# Altium schematic symbol library HFPB_01-SchLib.SchLib: 68 symbols (part 1 of 2)
Pins are listed as number, name and electrical type; pins without a type are passive.

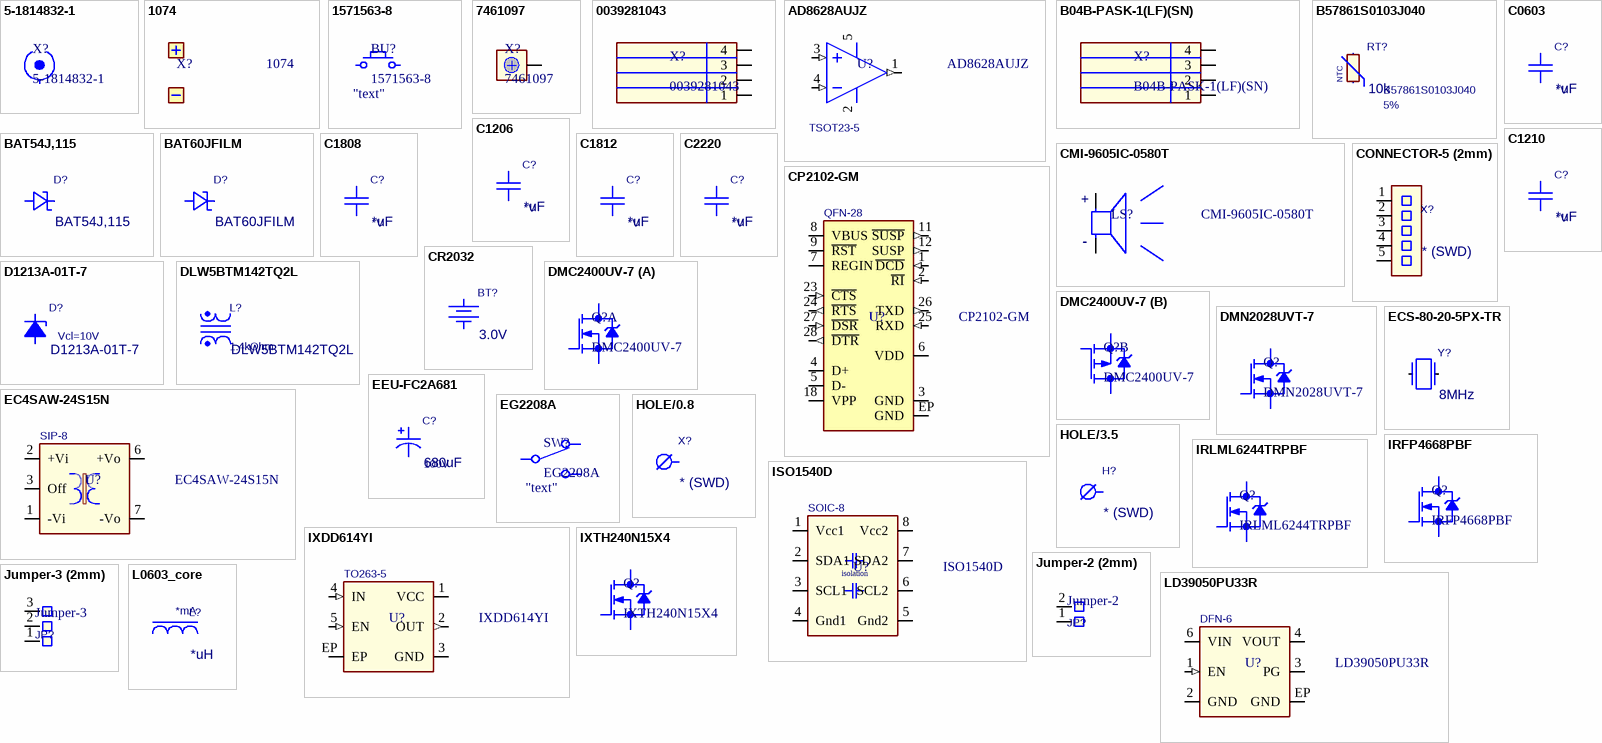
[diagram p0: symbols 5-1814832-1 to LD39050PU33R]

## 5-1814832-1
designator X?
SMA Jack, Socket 50Ohm; Manufacturer: TE Connectivity; CompType: Connector; Alternative: *; Comment for circuit: *; Datasheet link: https://media.digikey.com/pdf/Data%20Sheets/Tyco%20Electonics%20AMP%20PDFs/1814832.pdf; Digikey link: https://www.digikey.com/en/products/detail/te-connectivity-amp-connectors/5-1814832-1/1755982?s=N4IgTCBcDaIKwFoCMAOJAWFBmMyQF0BfIA; Digikey number: A97594-ND; Mouser link: https://ru.mouser.com/ProductDetail/TE-Connectivity/5-1814832-1?qs=%2Fha2pyFadujv3xjXUHYfT9HFCQFIaOvj947YzfzZQLTp9WrCGaVNGg%3D%3D; Mouser number: 571-5-1814832-1; Package/Case: Through Hole; Part Description: SMA Jack, Socket 50Ohm; Part number: 5-1814832-1; Price per 1p (1), $: 12.0; Price per 1p (1000), $: 1.7; Mating with: *
footprint TE_5-1814832-1
pins: 1, 2

## 1074
designator X?
Battery holder for CR2032; Manufacturer: Keystone; CompType: Connector; Package/Case: Trough Hole-3; Alternative: *; Comment for circuit: *; Datasheet link: http://www.keystoneelectronics.net/ENG._DEPT/WEB_ORACLE/PDF/PDF%20CAT%20NO%20DRAWINGS/1000-1999/1074.PDF; Digikey link: https://www.digikey.com/en/products/detail/keystone-electronics/1074/9921784; Digikey number: 36-1074-ND; Mouser link: https://ru.mouser.com/ProductDetail/Keystone-Electronics/1074?qs=u16ybLDytRZ%2FZj7HSRmD5g%3D%3D; Mouser number: 534-1074; Part Description: Battery holder for CR2032; Part number: 1074; Price per 1p (1), $: 0.63; Price per 1p (1000), $: 0.37
footprint Keystone-1074 (Battery holder)
pins: 1 MINUS, 2 PLUS

## 1571563-8
designator BU?  value "text"
Switch tactile OFF-(ON) 0.05A 24V; Manufacturer: TE Connectivity; Part Description: Switch tactile 6.0x6.0x5.0mm; CompType: Switch; Alternative: *; Comment for circuit: *; Datasheet link: https://www.te.com/commerce/DocumentDelivery/DDEController?Action=srchrtrv&DocNm=2-1437565-7&DocType=Customer+Drawing&DocLang=English; Digikey link: https://www.digikey.com/product-detail/en/te-connectivity-alcoswitch-switches/1571563-8/450-2056-1-ND/4569746; Digikey number: 450-2056-1-ND; Mouser link: https://www.mouser.fi/ProductDetail/TE-Connectivity-PB/1571563-8?qs=%2Fha2pyFaduj0OuietpPA40kWGM%2FYIDp1pjMEPmW2uQg=; Mouser number: 506-1571563-8; Package/Case: SMD 6.0x6.00; Part number: 1571563-8; Price per 1p (1), $: 0.3; Price per 1p (1000), $: 0.2
footprint TE_1571563-8
pins: 1, 2, 3, 4

## 7461097
designator X?
Screw Terminal M6 16 pin; Manufacturer: Wurth Elektronik; CompType: Connector; Alternative: *; Comment for circuit: *; Datasheet link: https://www.we-online.de/katalog/datasheet/7461097.pdf; Digikey link: https://www.digikey.com/en/products/detail/w%C3%BCrth-elektronik/7461097/2682508; Digikey number: 732-3217-ND; Mouser link: https://eu.mouser.com/ProductDetail/Wurth-Elektronik/7461097/?qs=%2Fha2pyFaduivfHmPS%2FalO0LxillnNa7WBZ9739yqip0%3D; Mouser number: 710-7461097; Package/Case: Through Hole; Part Description: Screw Terminal M6 16 pin; Part number: 7461097; Price per 1p (1), $: 5.15; Price per 1p (1000), $: 3.00; Mating with: *
footprint Wurth_7461097 (M6, blind 6.5mm)
pins: 1

## 0039281043
designator X?
Connector Header 4 pin; Manufacturer: Molex; Mating with: 0039012040 + 4 x (0039000039); Text: "text"; CompType: Connector; Alternative: *; Comment for circuit: *; Datasheet link: https://www.molex.com/pdm_docs/sd/039281043_sd.pdf; Digikey link: https://www.digikey.com/en/products/detail/molex/0039281043/61400; Digikey number: WM3801-ND; Mouser link: https://ru.mouser.com/ProductDetail/Molex/39-28-1043?qs=LQQHZ4xw2XCMHoV0KRLGhg%3D%3D; Mouser number: 538-39-28-1043; Package/Case: Through Hole; Part Description: Connector Header 4 pin; Part number: 0039281043; Price per 1p (1), $: 0.75; Price per 1p (1000), $: 0.34
footprint Molex_0039281043 (Connector Header Through Hole 4 position 4.2mm)
pins: 1, 2, 3, 4

## AD8628AUJZ
designator U?  Package/Case: TSOT23-5
OpAmp Rail-to-Rail 1 Channel; Manufacturer: Analog Devices; CompType: Integrated circuit; Alternative: *; Comment for circuit: *; Datasheet link: https://www.analog.com/media/en/technical-documentation/data-sheets/AD8628_8629_8630.pdf; Digikey link: https://www.digikey.com/en/products/detail/analog-devices-inc/AD8628AUJZ-REEL7/996267; Digikey number: AD8628AUJZ-REEL7CT-ND; Mouser link: https://ru.mouser.com/ProductDetail/Analog-Devices/AD8628AUJZ-REEL7?qs=%2FtpEQrCGXCwiRJmva1wT4g%3D%3D; Mouser number: 584-AD8628AUJZ-R7; Part Description: OpAmp Rail-to-Rail 1 Channel; Part number: AD8628AUJZ; Price per 1p (1), $: 2.63; Price per 1p (1000), $: 1.28
footprint SOT23-5P95_280X145L45X40N (Small Outline Transistor (SOT23), 0.95 mm pitch; 5 pin, 2.90 mm L X 1.60 mm W X 1.45 mm H body)
pins: 1 OUT (out), 2 V- (power), 3 IN+ (in), 4 IN- (in), 5 V+ (power)

## B04B-PASK-1(LF)(SN)
designator X?
Connector Header 4 pins, 2.0mm; Manufacturer: JST; Mating with: PAP-04V-S; CompType: Connector; Alternative: *; Comment for circuit: *; Datasheet link: http://www.jst-mfg.com/product/pdf/eng/ePA-F.pdf; Digikey link: https://www.digikey.com/en/products/detail/jst-sales-america-inc/B04B-PASK-1-LF-SN/926740; Digikey number: 455-1834-ND; Mouser link: -; Mouser number: -; Package/Case: Through Hole; Part Description: Connector Header 4 pins, 2.0mm; Part number: B04B-PASK-1(LF)(SN); Price per 1p (1), $: 0.34; Price per 1p (1000), $: 0.16
footprint JST_B04B-PASK-1
pins: 1, 2, 3, 4

## B57861S0103J040
designator RT?, comment 10k  Part number: B57861S0103J040  Value1: 5%
Thermistor NTC 10k 5%; Manufacturer: TDK-EPCOS; Part Description: NTC resistor 10kOhm 5% 3988K; Value2: 3988K; Alternative: NTCG104ED104DT1X; Value3: 60mW; CompType: Thermistor; Value: 10k; Package/Case: Through hole; Datasheet link: https://www.tdk-electronics.tdk.com/inf/50/db/ntc/NTC_Mini_sensors_S861.pdf; Price per 1p (1), $: 1.; Price per 1p (1000), $: 0.8; Comment for circuit: *; Mouser number: 871-B57861S103J40; Digikey number: 495-75200-ND; Digikey link: https://www.digikey.com/en/products/detail/epcos-tdk-electronics/B57861S0103J040/3500452?s=N4IgTCBcDaIEIFYDsAOAbARgMoAYM4GYApHAFhxAF0BfIA; Mouser link: https://eu.mouser.com/ProductDetail/EPCOS-TDK/B57861S0103J040?qs=%2Fha2pyFadujntv0e0iDVKOWqU6ne%252BuLwIPAsv4SnY6MEOfaNDodXpA%3D%3D
footprint NTC - Through hole
pins: 1, 2
text: NTC

## BAT54J,115
designator D?
Diode Schottky 30V 0.2A; Manufacturer: Nexperia; Value2: 0.8V; Part number: BAT54J,115; CompType: Diode; Package/Case: SOD-323F; Datasheet link: https://rocelec.widen.net/view/pdf/es9ugfukaw/PHGLS14913-1.pdf?t.download=true&u=5oefqw; Price per 1p (1), $: 0.24; Price per 1p (1000), $: 0.04; Comment for circuit: *; Mouser number: 771-BAT54J115; Digikey number: 1727-4818-1-ND; Alternative: *; Digikey link: https://www.digikey.com/en/products/detail/nexperia-usa-inc/BAT54J-115/1692654; Mouser link: https://eu.mouser.com/ProductDetail/Nexperia/BAT54J115?qs=%2Fha2pyFadugI9ADa6WxEnxQzp3xOrOvOo4yhxZudU23LhjKFM4l8YQ%3D%3D; Value3: -; Part Description: Diode Schottky 30V 0.2A; Value1: 0.2A; Value: 30V
footprint SODFL250X125X80L40X32N (Diode, Small Outline Diode Flat Lead (SODFL); 1.70 mm L X 1.25 mm W X 0.80 mm H body)
pins: A, C

## BAT60JFILM
designator D?
Diode Schottky 10V 3A; Manufacturer: STM; Value2: 0.58V; Part number: BAT60JFILM; CompType: Diode; Package/Case: SOD-323; Datasheet link: https://www.st.com/content/ccc/resource/technical/document/datasheet/3d/d2/27/1d/20/e3/4d/48/CD00001944.pdf/files/CD00001944.pdf/jcr:content/translations/en.CD00001944.pdf; Price per 1p (1), $: 0.32; Price per 1p (1000), $: 0.06; Comment for circuit: *; Mouser number: 511-BAT60JFILM; Digikey number: 497-3707-1-ND; Alternative: *; Digikey link: https://www.digikey.com/en/products/detail/stmicroelectronics/BAT60JFILM/686386?s=N4IgTCBcDaIEIEEAqA2ADAKQGIEkAyAsiALoC%2BQA; Mouser link: https://eu.mouser.com/ProductDetail/STMicroelectronics/BAT60JFILM?qs=%2Fha2pyFadugkQQnfwhC%2FYlghszO9A%2FCVKvGNi1XWJVA%3D; Value3: -; Part Description: Diode Schottky 10V 3A; Value1: 3A; Value: 10V
footprint SOD250X125X110L30X32N (Diode, Small Outline Diode (SOD); 1.70 mm L X 1.25 mm W X 1.10 mm H body)
pins: A, C

## C0603
designator C?, comment *uF  Value3: *V
Capacitor 0603; Manufacturer: * (Murata); Part Description: *(Ceramic) *uF *% *(X7R) *(V); Value1: *%; Value2: *(X7R); Part number: *; CompType: Capacitor; Value: *uF; Package/Case: SMD0603; Datasheet link: *; Price per 1p (1), $: *; Price per 1p (1000), $: *; Comment for circuit: *; Mouser number: *; Digikey number: *; Alternative: *; Digikey link: *; Mouser link: *
footprint CAPC160X80X80L35N - Full legend (Capacitor, Chip; 1.60 mm L X 0.80 mm W X 0.80 mm H body)
pins: 1, 2

## C1206
designator C?, comment *uF  Value3: *V
Capacitor 1206; Manufacturer: * (Murata); Part Description: *(Ceramic) *uF *% *(X7R) *(V); Value1: *%; Value2: *(X7R); Part number: *; CompType: Capacitor; Value: *uF; Package/Case: SMD1206; Datasheet link: *; Price per 1p (1), $: *; Price per 1p (1000), $: *; Comment for circuit: *; Mouser number: *; Digikey number: *; Alternative: *; Digikey link: *; Mouser link: *
footprint CAPC320X160X180L50N - full legend (Capacitor, Chip; 3.20 mm L X 1.60 mm W X 1.80 mm H body)
pins: 1, 2

## C1210
designator C?, comment *uF  Value3: *V
Capacitor 1210; Manufacturer: * (Murata); Part Description: *(Ceramic) *uF *% *(X7R) *(V); Value1: *%; Value2: *(X7R); Part number: *; CompType: Capacitor; Value: *uF; Package/Case: SMD1210; Datasheet link: *; Price per 1p (1), $: *; Price per 1p (1000), $: *; Comment for circuit: *; Mouser number: *; Digikey number: *; Alternative: *; Digikey link: *; Mouser link: *
footprint CAPC320X250X280L60N - full legend (Capacitor, Chip; 3.20 mm L X 2.50 mm W X 2.80 mm H body)
pins: 1, 2

## C1808
designator C?, comment *uF  Value3: *V
Capacitor 1808; Manufacturer: * (Murata); Part Description: *(Ceramic) *uF *% *(X7R) *(V); Value1: *%; Value2: *(X7R); Part number: *; CompType: Capacitor; Value: *uF; Package/Case: SMD1808; Datasheet link: *; Price per 1p (1), $: *; Price per 1p (1000), $: *; Comment for circuit: *; Mouser number: *; Digikey number: *; Alternative: *; Digikey link: *; Mouser link: *
footprint CAPC470X200X175L60N (Capacitor, Chip; 4.70 mm L X 2.00 mm W X 1.75 mm H body)
pins: 1, 2

## C1812
designator C?, comment *uF  Value3: *V
Capacitor 1812; Manufacturer: * (Murata); Part Description: *(Ceramic) *uF *% *(X7R) *(V); Value1: *%; Value2: *(X7R); Part number: *; CompType: Capacitor; Value: *uF; Package/Case: SMD1812; Datasheet link: *; Price per 1p (1), $: *; Price per 1p (1000), $: *; Comment for circuit: *; Mouser number: *; Digikey number: *; Alternative: *; Digikey link: *; Mouser link: *
footprint CAPC450X320X140L60N (Capacitor, Chip; 4.50 mm L X 3.20 mm W X 1.40 mm H body)
pins: 1, 2

## C2220
designator C?, comment *uF  Value3: *V
Capacitor 2220; Manufacturer: * (Murata); Part Description: *(Ceramic) *uF *% *(X7R) *(V); Value1: *%; Value2: *(X7R); Part number: *; CompType: Capacitor; Value: *uF; Package/Case: SMD2220; Datasheet link: *; Price per 1p (1), $: *; Price per 1p (1000), $: *; Comment for circuit: *; Mouser number: *; Digikey number: *; Alternative: *; Digikey link: *; Mouser link: *
footprint CAPC570X500X160L60N (Capacitor, Chip; 5.70 mm L X 5.00 mm W X 1.60 mm H body)
pins: 1, 2

## CMI-9605IC-0580T
designator LS?
Buzzer Magnetic Audio Indicator 5V 80dB 2.7kHz; Manufacturer: CUI; Part Description: Buzzer Magnetic  5V 80dB 2.7kHz; CompType: Buzzer; Package/Case: Through hole 9.6x5.0; Alternative: *; Comment for circuit: *; Datasheet link: https://www.mouser.fi/datasheet/2/670/cmi-9605ic-0580t-1777058.pdf; Digikey link: https://www.digikey.com/product-detail/en/cui-devices/CMI-9605IC-0580T/2223-CMI-9605IC-0580T-ND/11674175; Digikey number: 2223-CMI-9605IC-0580T-ND; Mouser link: https://www.mouser.fi/ProductDetail/CUI-Devices/CMI-9605IC-0580T?qs=%2Fha2pyFaduiWDziRe0pUkXmI24fbhN7%252BQ5ghD9GyA1o5501nVMK8eg%3D%3D; Mouser number: 490-CMI-9605IC-0580T; Part number: CMI-9605IC-0580T; Price per 1p (1), $: 1.41; Price per 1p (1000), $: 0.77
footprint CUI_CMI-9605IC-0580T
pins: N, P
text: +; -

## CONNECTOR-5 (2mm)
designator X?, comment * (SWD)
Connector 5 holes 2mm; Value1: 0.8mm; Value2: 1.4mm; CompType: Connector; Value: * (SWD); Package/Case: -; Comment for circuit: *; Part Description: *
footprint PLS-5 (Header, Vertical, 2.54 mm pitch; 0.64 mm lead width, 5 pins, 1 row, 5 pins per row, 12.70 mm L X 2.54 mm W X 8.40 mm H body)
pins: 1, 2, 3, 4, 5

## CP2102-GM
designator U?  Package/Case: QFN-28
Interface USB to UART; Manufacturer: Silicon Labs; CompType: Integrated circuit; Alternative: *; Comment for circuit: *; Datasheet link: https://www.silabs.com/documents/public/data-sheets/CP2102-9.pdf; Digikey link: https://www.digikey.com/en/products/detail/silicon-labs/CP2102-GM/696598; Digikey number: 336-1160-5-ND; Mouser link: https://eu.mouser.com/ProductDetail/Silicon-Labs/CP2102-GM?qs=yHCtFi5ROqJvCcyR88R4Pg%3D%3D; Mouser number: 634-CP2102-GM; Part Description: Interface USB to UART; Part number: CP2102-GM; Price per 1p (1), $: 3.5; Price per 1p (1000), $: 1.5
footprint QFN29P50_500X500X100L55X23T315N (Quad Flat No-Lead (QFN with Tab), 0.50 mm pitch; square, 7 pin X 7 pin, 5.00 mm L X 5.00 mm W X 1.00 mm H body)
pins: 1 ~{DCD} (in), 2 ~{RI} (in), 3 GND (power), 4 D+ (io), 5 D- (io), 6 VDD (power), 7 REGIN (power), 8 VBUS (power), 9 ~{RST} (io), 11 ~{SUSP} (out), 12 SUSP (out), 18 VPP (io), 23 ~{CTS} (in), 24 ~{RTS} (out), 25 RXD (in), 26 TXD (out), 27 ~{DSR} (in), 28 ~{DTR} (out), EP GND (power)

## CR2032
designator BT?, comment 3.0V
Battery CR2032; Manufacturer: * (Panasonic); Part Description: CR2032 Lithium; CompType: Battery 18650 Li-Pol; Value1: *mA*h; Part number: *; Value: 3.0V; Package/Case: *; Datasheet link: *; Price per 1p (1), $: *; Price per 1p (1000), $: *; Comment for circuit: *; Mouser number: *; Digikey number: *; Alternative: *; Digikey link: *; Mouser link: *
pins: 1, 2

## D1213A-01T-7
designator D?  Value2: Vcl=10V
TVS Diode Vstand=3.3V Vclamp=10V; Manufacturer: Diodes Inc.; Part Description: TVS Diode Vstand=5.5V Vclamp=10V; Value: Vst=3.3V; Value3: 5A; Value1: Vbr=6V; CompType: TVS Diode; Package/Case: SOD-523; Datasheet link: https://www.diodes.com/assets/Datasheets/D1213A-01T.pdf; Price per 1p (1), $: 0.36; Price per 1p (1000), $: 0.055; Comment for circuit: *; Mouser number: 621-D1213A-01T-7; Digikey number: D1213A-01T-7DICT-ND; Alternative: *; Digikey link: https://www.digikey.com/en/products/detail/diodes-incorporated/d1213a-01t-7/3340396; Mouser link: https://www.mouser.fi/ProductDetail/Diodes-Incorporated/D1213A-01T-7?qs=%2Fha2pyFadugTbXyDDJCBKr26BLlAlDs3op5XjdvY%2F2Ix7eZK8W%2F%2Fgg%3D%3D; Part number: D1213A-01T-7
footprint SODFL160X80X65L30X30N (Diode, Small Outline Diode Flat Lead (SODFL); 1.20 mm L X 0.80 mm W X 0.65 mm H body)
pins: A Anode, C Cathode

## DLW5BTM142TQ2L
designator L?  value 1.4kOhm
Common Mode Choke 2 lines 1.4kOhm 2A 56mOhm; Manufacturer: Murata; CompType: Inductor; Value3: 0.2Ohm; Part number: DLW5BTM142TQ2L; Package/Case: SMD-4; Datasheet link: https://www.murata.com/en-us/products/productdata/8796761587742/EFLC0025.pdf; Price per 1p (1), $: 1.7; Price per 1p (1000), $: 0.6; Comment for circuit: *; Mouser number: 81-DLW5BTM142TQ2L; Digikey number: 490-11110-1-ND; Alternative: *; Digikey link: https://www.digikey.com/en/products/detail/murata-electronics/DLW5BTM142TQ2L/4421377?s=N4IgTCBcDaICIBkDqBWAQgFQLIEYAsYGAimAiALoC%2BQA; Mouser link: https://eu.mouser.com/ProductDetail/Murata-Electronics/DLW5BTM142TQ2L?qs=eTNEoJdcnEJfMtnluA8TOg%3D%3D; Part Description: Common Mode Choke 2 lines 1.4kOhm 2A 56mOhm; Value1: 2A; Value2: 56mOhm
footprint MURATA_DLW5BTM142TQ2L
pins: 1, 2, 3, 4

## DMC2400UV-7
designator Q?
Transistors N-channel, P-channel (Dual) MOSFET, 20V, 1A; Manufacturer: Diodes Inc.; Part Description: MOSFETs N and P-channel (Dual); 20V, 1A; ESD protected; CompType: Transistor; Part number: DMC2400UV-7; Price per 1p (1), $: 0.38; Price per 1p (1000), $: 0.08; Package/Case: SOT-563; Alternative: *; Comment for circuit: *; Datasheet link: https://www.diodes.com/assets/Datasheets/DMC2400UV.pdf; Digikey link: https://www.digikey.com/product-detail/en/diodes-incorporated/DMC2400UV-7/DMC2400UV-7DICT-ND/2918407; Mouser link: https://eu.mouser.com/ProductDetail/Diodes-Incorporated/DMC2400UV-7?qs=sGAEpiMZZMshyDBzk1%2FWi5951hX7lZy1gw9GgZIwPcI%3D; Mouser number: 21-DMC2400UV-7; Digikey number: DMC2400UV-7DICT-ND
footprint TRXSOFL6P50_160X162X60L20X22N (Transistor, Small Outline Flat Lead (SOFL), 0.50 mm pitch; 6 pin, 1.60 mm L X 1.175 mm W X 0.60 mm H body)
part A pins: 1 S1, 2 G1, 6 D1
part B pins: 3 D2, 4 S2, 5 G2

## DMN2028UVT-7
designator Q?
MOSFET N-channel, 20V, 24mOhm; Manufacturer: Diodes Inc.; CompType: Transistor; Part number: DMN2028UVT-7; Price per 1p (1), $: 0.43; Price per 1p (1000), $: 0.13; Package/Case: SOT23-6; Alternative: *; Comment for circuit: *; Datasheet link: https://www.diodes.com/assets/Datasheets/DMN2028UVT.pdf; Digikey link: https://www.digikey.com/en/products/detail/diodes-incorporated/DMN2028UVT-7/5453118?s=N4IgTCBcDaICIFkByYAMYAcBVAagFQFoB2EAXQF8g; Mouser link: https://ru.mouser.com/ProductDetail/Diodes-Incorporated/DMN2028UVT-7?qs=MNIFWdyJgbq1x%252BU3G1CPew%3D%3D; Mouser number: 621-DMN2028UVT-7; Part Description: MOSFET N-channel, 20V, 24mOhm; Digikey number: DMN2028UVT-7DICT-ND
footprint SOT23-6P95_280X100L40X40N (Small Outline Transistor (SOT23), 0.95 mm pitch; 6 pin, 2.90 mm L X 1.60 mm W X 1.00 mm H body)
pins: 1 D, 2 D, 3 G, 4 S, 5 D, 6 D

## EC4SAW-24S15N
designator U?  Package/Case: SIP-8
DC/DC Converter 6W 1.5kV Isolated; Manufacturer: Cincon; CompType: Integrated circuit; Alternative: *; Comment for circuit: *; Datasheet link: https://www.cincon.com/productdownload/SPEC-EC4SAW-V12.pdf, https://www.cincon.com/productdownload/EC4SAW-SERIES-application-note.pdf; Digikey link: https://www.digikey.com/en/products/detail/cincon-electronics-co-ltd/EC4SAW-24S15N/9683268?s=N4IgTCBcDaIKIGEAsBlAggdQLRlQRgFYA5EAXQF8g; Digikey number: EC4SAW-24S15N; Mouser link: https://ru.mouser.com/ProductDetail/Cincon/EC4SAW-24S15N?qs=%2Fha2pyFaduiGXo%2F8izrl2Opdn1C73MRZCbc2zfZkPUuoj8AECuablg%3D%3D; Mouser number: 418-EC4SAW-24S15N; Part Description: DC/DC Converter 6W 1.5kV Isolated; Part number: EC4SAW-24S15N; Price per 1p (1), $: 12.0; Price per 1p (1000), $: 10.0
footprint SIP950W50P254L2200H1150Q8 (SIP, 2.54 mm pitch; 8 pin, 22.00 mm L X 9.50 mm W X 11.50 mm H body)
pins: 1 -Vi (power), 2 +Vi (power), 3 Off (power), 6 +Vo (power), 7 -Vo (power), 14 NC hidden

## ECS-80-20-5PX-TR
designator Y?, comment 8MHz
Crystal 8MHz; Part number: ECS-80-20-5PX-TR; Manufacturer: ECS Inc.; Part Description: Crystal 32MHz 10pF 10ppm; Value2: 50ppm; Value3: 60Ohm; Value1: 20pF; CompType: Crystal; Value: 8MHz; Package/Case: HC-49/US; Datasheet link: https://ecsxtal.com/store/pdf/csm-7x.pdf; Price per 1p (1), $: 0.30; Price per 1p (1000), $: 0.18; Comment for circuit: *; Mouser number: 520-80-20-5PX-T; Digikey number: XC2076CT-ND; Alternative: *; Digikey link: https://www.digikey.com/product-detail/en/ecs-inc/ECS-80-20-5PX-TR/XC2076CT-ND/5875560; Mouser link: https://www.mouser.fi/ProductDetail/ECS/ECS-80-20-5PX-TR?qs=wYonFgBYHKlzFXpOtPA%2FIw%3D%3D
footprint XTAL1140X470X430D1310L435X63N (Crystal; 11.40 mm L X 4.70 mm W X 4.30 mm H body)
pins: 1, 2

## EEU-FC2A681
designator C?, comment 680uF  Value3: 100V
Capacitor Aluminum Electrolytic Radial 680µF 100V 36mOhm; Part number: EEU-FC2A681; Manufacturer: Panasonic; Part Description: Polymer Radial 100µF 20% 35V 25mOhm 2000h; Value1: 5000h; Value2: 36mOhm; CompType: Capacitor; Value: 680uF; Package/Case: Radial, T/H 40.0x18.0; Datasheet link: https://industrial.panasonic.com/cdbs/www-data/pdf/RDF0000/ABA0000C1209.pdf; Price per 1p (1), $: 3.0; Price per 1p (1000), $: 1.2; Comment for circuit: *; Mouser number: 667-EEU-FC2A681; Digikey number: P10875-ND; Alternative: *; Digikey link: https://www.digikey.com/en/products/detail/panasonic-electronic-components/EEU-FC2A681/285738?s=N4IgTCBcDaIKJwKoFoBiBhMBBAbADgEYQBdAXyA; Mouser link: https://eu.mouser.com/ProductDetail/Panasonic/EEU-FC2A681?qs=%2Fha2pyFaduhEQn%252Bb0FuXjefFIggaKnk9L%252B3cS5CzWh0%3D
footprint CAPPRD750W80D1820H4200 (Capacitor, Polarized, Radial (Electrolytic); 7.50 mm C X 18.20 mm Dia X 42.00 mm H body)
pins: N, P

## EG2208A
designator SW?  value "text"
Switch ON-ON 0.3A 50V; Manufacturer: E-Switch; CompType: Switch; Alternative: *; Comment for circuit: *; Datasheet link: https://sten-eswitch-13110800-production.s3.amazonaws.com/system/asset/product_line/data_sheet/119/EG.pdf; Digikey link: https://www.digikey.com/en/products/detail/e-switch/EG2208A/301964?s=N4IgTCBcDaIKIHExgAwA4CCIC6BfIA; Digikey number: EG1942-ND; Mouser link: https://www.mouser.com/ProductDetail/E-Switch/EG2208A?qs=%2Fha2pyFadugmSmP5bEvz77wGRyMPQnrU%2F%2FKuNM2THIw%3D; Mouser number: 612-EG2208A; Package/Case: Through Hole, Right Angle; Part Description: Switch ON-ON 0.3A 50V; Part number: EG2208A; Price per 1p (1), $: 0.82; Price per 1p (1000), $: 0.5
footprint SK22D07
pins: 1, 2, 3, 4, 5, 6

## HOLE/0.8
designator X?, comment * (SWD)
HOLE 0.8mm; Value2: 1.4mm; Value1: 0.8mm; CompType: Hole; Value: * (SWD); Package/Case: -; Comment for circuit: *; Part Description: *
footprint hole/0.8/1.4-R (hole rect 0.8/1.4)
footprint hole/0.8/1.4-O (hole rect 0.8/1.4)
pins: 1

## HOLE/3.5
designator H?, comment * (SWD)
HOLE 3.5mm; Value2: 4.5mm; Value1: 3.5mm; CompType: Hole; Value: * (SWD); Package/Case: -; Comment for circuit: *; Part Description: *
footprint hole/3.5/4.5-O (hole round 3.5/4.5)
pins: 1

## IRFP4668PBF
designator Q?
MOSFET N-channel, 200V, 8mOhm; Manufacturer: Infineon; CompType: Transistor; Part number: IRFP4668PBF; Price per 1p (1), $: 7.0; Price per 1p (1000), $: 3.6; Package/Case: TO247-3; Alternative: *; Comment for circuit: *; Datasheet link: https://www.infineon.com/dgdl/irfp4668pbf.pdf?fileId=5546d462533600a40153562c8528201d; Digikey link: https://www.digikey.com/en/products/detail/infineon-technologies/IRFP4668PBF/1982963?s=N4IgTCBcDaIJICUBiAFALANgwDhQISRAF0BfIA; Mouser link: https://eu.mouser.com/ProductDetail/Infineon-IR/IRFP4668PBF/?qs=%2Fha2pyFaduhUh8we2y6iUULu3rqwwuVUiKlw5Tgmvuxd0BrSWS5nng==; Mouser number: 942-IRFP4668PBF; Part Description: MOSFET N-channel, 200V, 8mOhm; Digikey number: IRFP4668PBF-ND
footprint TO247-3
pins: 1 G, 2 D, 3 S

## IRLML6244TRPBF
designator Q?
MOSFET N-channel, 20V, 21mOhm; Manufacturer: Infineon; CompType: Transistor; Part number: IRLML6244TRPBF; Price per 1p (1), $: 0.43; Price per 1p (1000), $: 0.13; Package/Case: SOT23-3; Alternative: *; Comment for circuit: *; Datasheet link: https://www.infineon.com/dgdl/irlml6244pbf.pdf?fileId=5546d462533600a4015356686fed261f; Digikey link: https://www.digikey.com/en/products/detail/infineon-technologies/IRLML6244TRPBF/2393871?s=N4IgTCBcDaIJICUAyBZJA2MAWLAVBACgEIBiIAugL5A; Mouser link: https://ru.mouser.com/ProductDetail/Infineon-IR/IRLML6244TRPBF?qs=%2Fha2pyFadujeyBzDqaIaJ4NUAEeLSDgUw%2FRWGzjYGSnNi7hxyn4IcA%3D%3D; Mouser number: 942-IRLML6244TRPBF; Part Description: MOSFET N-channel, 20V, 21mOhm; Digikey number: IRLML6244TRPBFCT-ND
footprint SOT23-3P95_235X110L50X40N (Small Outline Transistor (SOT23), 0.95 mm pitch; 3 pin, 2.90 mm L X 1.30 mm W X 1.10 mm H body)
pins: 1 G, 2 S, 3 D

## ISO1540D
designator U?  Package/Case: SOIC-8
Digital Isolator I2C 2500Vrms 2 Channel 1Mbps; Manufacturer: Silicon Labs; CompType: Integrated circuit; Alternative: *; Comment for circuit: *; Datasheet link: https://www.ti.com/lit/ds/symlink/iso1540-q1.pdf?ts=1615839581838; Digikey link: https://www.digikey.com/en/products/detail/texas-instruments/ISO1540D/3601070; Digikey number: 296-34896-5-ND; Mouser link: https://eu.mouser.com/ProductDetail/Texas-Instruments/ISO1540D?qs=rg6Iqu58vpWvO86XnJi3%2Fg%3D%3D; Mouser number: 595-ISO1540D; Part Description: Digital Isolator I2C 2500Vrms 2 Channel 1Mbps; Part number: ISO1540D; Price per 1p (1), $: 5.73; Price per 1p (1000), $: 2.87
footprint SOIC-8 (SOIC pitch=1.27mm, L*W=4.9mm*3.9mm)
pins: 1 Vcc1 (power), 2 SDA1 (io), 3 SCL1 (io), 4 Gnd1 (power), 5 Gnd2 (power), 6 SCL2 (io), 7 SDA2 (io), 8 Vcc2 (power)
text: isolation

## IXDD614YI
designator U?  Package/Case: TO263-5
MOSFET Driver IC; Manufacturer: IXYS; CompType: Integrated circuit; Alternative: IXDN614YI; Comment for circuit: *; Datasheet link: https://www.ixysic.com/home/pdfs.nsf/0/18AB54BEE23C4E71852577520051C399/$file/IXD_614.pdf; Digikey link: https://www.digikey.com/en/products/detail/ixys-integrated-circuits-division/IXDD614YI/2391600?s=N4IgTCBcDaIJIA0AiSBsBGALATTiAugL5A; Digikey number: CLA338-ND; Mouser link: https://eu.mouser.com/ProductDetail/IXYS-Integrated-Circuits/IXDD614YI/?qs=%2Fha2pyFaduiZAeBBqN5wty5ShYJ6%2FfWCWwL6htYUQeY%3D; Mouser number: 849-IXDD614YI; Part Description: MOSFET Driver IC; Part number: IXDD614YI; Price per 1p (1), $: 5.14; Price per 1p (1000), $: 2.58
footprint DPAK6P170_1524X482L228X75T770X800N (DPAK, 1.702 mm pitch; 5 pin, 9.017 mm L X 10.16 mm W X 4.82 mm H body)
pins: 1 VCC (power) "Positive power supply pin", 2 OUT (out) "Negative power supply pin", 3 GND (power) "Ground - Common ground reference for the  device", 4 IN (in) "Logic Input", 5 EN (in) "Output Enable - Drive pin low to disable output", EP "Thermal PAD is common drain of charge and discharge MOSFET"

## IXTH240N15X4
designator Q?
MOSFET N-chanel, 150V, 240A, 4.4mOhm; Manufacturer: IXYS; CompType: Transistor; Part number: IXTH240N15X4; Price per 1p (1), $: 11.4; Price per 1p (1000), $: 7.4; Package/Case: TO247-3; Alternative: *; Comment for circuit: *; Datasheet link: https://www.littelfuse.com/~/media/electronics/datasheets/discrete_mosfets/littelfuse_discrete_mosfets_n-channel_ultra_junction_ixt_240n15x4_datasheet.pdf.pdf; Digikey link: https://www.digikey.com/en/products/detail/ixys/IXTH240N15X4/10222203?s=N4IgTCBcDaIJIA0AqAJMAWADAOQIwFYF0QBdAXyA; Mouser link: https://eu.mouser.com/ProductDetail/IXYS/IXTH240N15X4?qs=T3oQrply3y%252BbuTinOhn9MQ%3D%3D; Mouser number: 747-IXTH240N15X4; Part Description: MOSFET N-chanel, 150V, 240A, 4.4mOhm; Digikey number: IXTH240N15X4-ND
footprint TO247-3
pins: 1 G, 2 D, 3 S

## Jumper-2 (2mm)
designator JP?, comment Jumper-2
Jumper 2 pins 2.00mm; Manufacturer: 3M; Part number: 951102-8622-AR; CompType: Connector; Price per 1p (1), $: 0.21; Package/Case: Though hole-2; Value: Jumper-2; Comment for circuit: *; Alternative: *; Datasheet link: https://multimedia.3m.com/mws/media/1400506O/3m-pin-strip-header-951-series-78-5100-2653-3.pdf; Digikey link: https://www.digikey.com/en/products/detail/3m/951102-8622-AR/7562464; Digikey number: 3M156413-02-ND; Mouser link: https://www.mouser.fi/ProductDetail/3M-Electronic-Solutions-Division/951102-8622-AR?qs=%2Fha2pyFadujSppBLhHOOBe8iDS5X6idpOUGMvAbhR3h1Xew0QlAA%252Bw%3D%3D; Mouser number: 517-951102-8622-AR; Part Description: Jumper 2 pins 2.00mm; Price per 1p (1000), $: 0.11
footprint JUMPER-2 (2mm) (Header, Vertical, 2.0 mm pitch; 0.5 mm lead width, 2 pins, 1 row, 2 pins per row, 4.0 mm L X 2.0 mm W X 6.90 mm H body)
pins: 1, 2

## Jumper-3 (2mm)
designator JP?, comment Jumper-3
Jumper 3 pins 2.00mm; Manufacturer: 3M; Part number: 951103-8622-AR; CompType: Connector; Price per 1p (1), $: 0.29; Package/Case: Though hole-3; Value: Jumper-3; Comment for circuit: *; Alternative: *; Datasheet link: https://multimedia.3m.com/mws/media/1400506O/3m-pin-strip-header-951-series-78-5100-2653-3.pdf; Digikey link: https://www.digikey.com/en/products/detail/3m/951103-8622-AR/7562465?s=N4IgjCBcoEwBxVAYygMwIYBsDOBTANCAPZQDaIAzAKzUAMA7CALqEAOALlCAMrsBOASwB2AcxABfQgDYAnIhApIGHAWJkQAFjBg4MxixAcuvQaImE4CaArRY8hEpHJhZMGVWZtOkHv2FjJcHoZWnlFZXs1JxA4DV1PQ29fUwDCGFoYCGtwu1VHci16OCo5AyMfE39zEABaLORbFQd1MFKvLglAj2tWKDA2XsgYKnFxIA; Digikey number: 3M156413-03-ND; Mouser link: https://www.mouser.fi/ProductDetail/3M-Electronic-Solutions-Division/951103-8622-AR?qs=%2Fha2pyFaduhJRVh7KI13Z%2FYAHk1VhWMFylHA8dAbbW%2FllJbcSNPQ2g%3D%3D; Mouser number: 517-951103-8622-AR; Part Description: Jumper 3 pins 2.00mm; Price per 1p (1000), $: 0.16
footprint JUMPER-3 (2mm) (Header, Vertical, 2.0 mm pitch; 0.5 mm lead width, 3 pins, 1 row, 3 pins per row, 6.0 mm L X 2.0 mm W X 6.90 mm H body)
pins: 1, 2, 3

## L0603_core
designator L?, comment *uH  Value2: *mA
Inductor 0603; Manufacturer: * (Taiyo Yuden); Part Description: Inductor *uH *% *mA *mOhm; Value3: *mOhm; Value1: *%; Part number: *; CompType: Inductor; Value: *uH; Package/Case: SMD0603; Datasheet link: *; Price per 1p (1), $: *; Price per 1p (1000), $: *; Comment for circuit: *; Mouser number: *; Digikey number: *; Alternative: *; Digikey link: *; Mouser link: *
footprint INDC160X80X90L45N - Full legend (Inductor, Chip; 1.60 mm L X 0.80 mm W X 0.90 mm H body)
pins: 1, 2

## LD39050PU33R
designator U?  Package/Case: DFN-6
LDO 3.3V 500mA; Manufacturer: STM; CompType: Integrated circuit; Alternative: *; Comment for circuit: *; Datasheet link: https://www.st.com/content/ccc/resource/technical/document/datasheet/12/43/cc/93/21/f6/41/66/CD00227527.pdf/files/CD00227527.pdf/jcr:content/translations/en.CD00227527.pdf; Digikey link: https://www.digikey.com/en/products/detail/stmicroelectronics/LD39050PU33R/2039876; Digikey number: 497-8716-1-ND; Mouser link: https://eu.mouser.com/ProductDetail/STMicroelectronics/LD39050PU33R?qs=%2Fha2pyFadujCURFU6JT6zdCg5MoSZujIJpCj1jzTgayb3edzjbabLA%3D%3D; Mouser number: 511-LD39050PU33R; Part Description: LDO 3.3V 500mA; Part number: LD39050PU33R; Price per 1p (1), $: 1.15; Price per 1p (1000), $: 0.58
footprint SON7P95_300X300X100L40X35T235X165N (Small Outline No-Lead (SON with Tab), 0.95 mm pitch; 6 pin, 3.00 mm L X 3.00 mm W X 1.00 mm H body)
pins: 1 EN (in), 2 GND (power), 3 PG, 4 VOUT (power), 5 NC hidden, 6 VIN (power), EP GND (power)

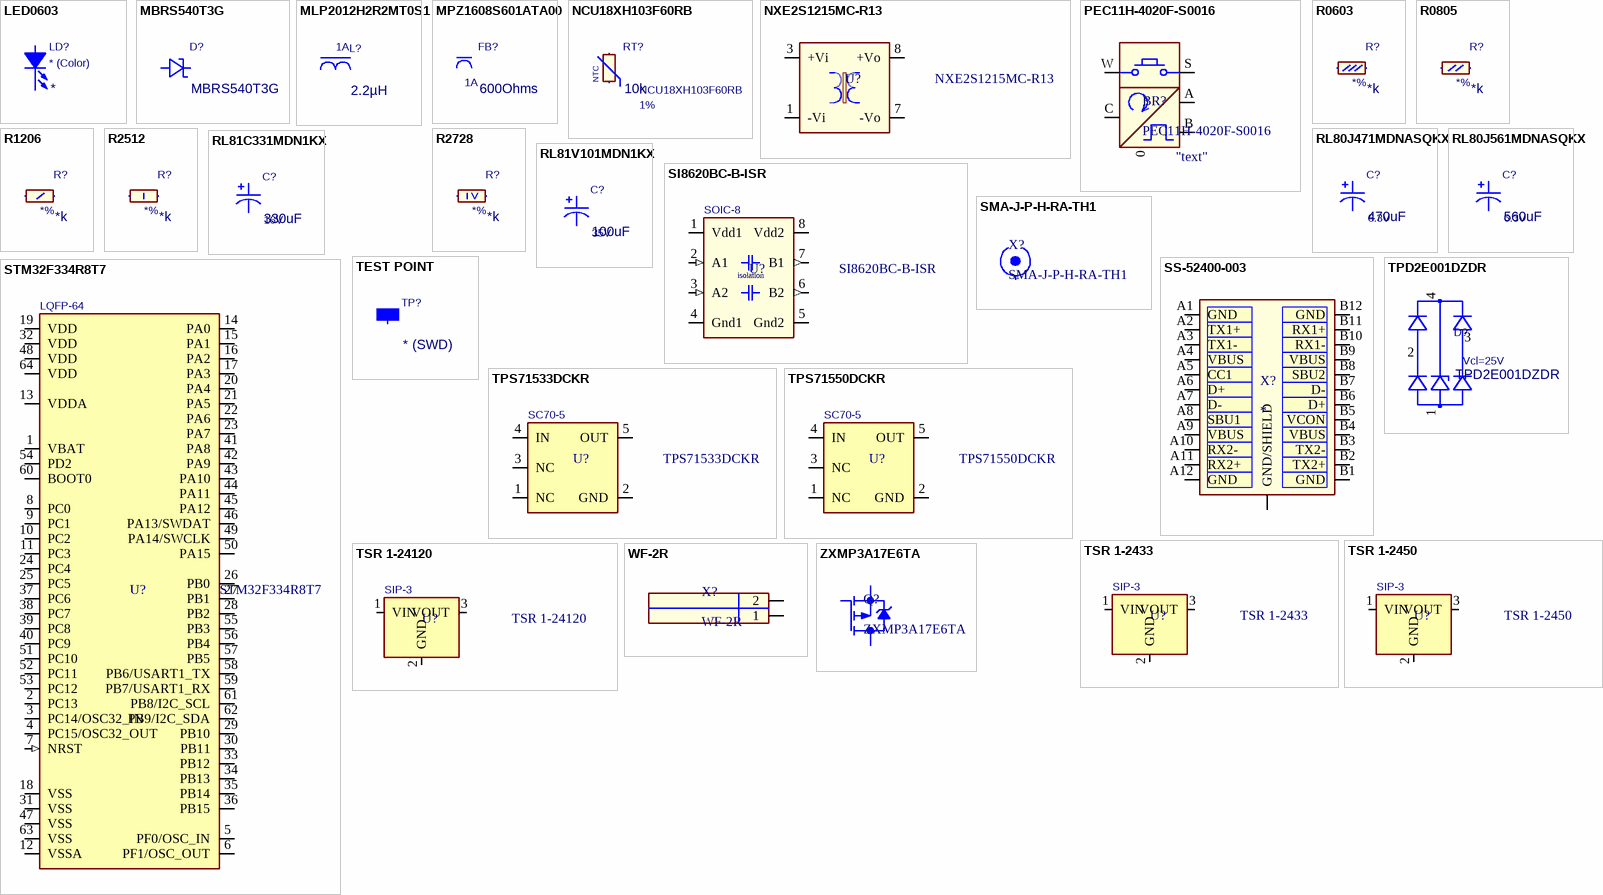
[diagram p1: symbols LED0603 to ZXMP3A17E6TA]

## LED0603
designator LD?  value * (Color)
LED 0603; Manufacturer: * (Taiyo Yuden); Part Description: LED *(Orange) *(600nm) *(90mcd) *(20mA) *(130º); Value3: * (For.Vol.); Value2: * (cd); Value1: * (nm); Text: "text"; Part number: *; CompType: LED; Package/Case: SMD0603; Datasheet link: *; Price per 1p (1), $: *; Price per 1p (1000), $: *; Comment for circuit: *; Mouser number: *; Digikey number: *; Alternative: *; Digikey link: *; Mouser link: *
footprint LEDC160X80X40L30N (LED, Chip; 1.60 mm L X 0.80 mm W X 0.40 mm H body)
pins: A, C

## MBRS540T3G
designator D?
Diode Schottky 40V 5A; Manufacturer: ON Semiconductor; Value2: 0.5V; Part number: MBRS540T3G; CompType: Diode; Package/Case: SMC; Datasheet link: https://www.onsemi.com/pdf/datasheet/mbrs540t3-d.pdf; Price per 1p (1), $: 0.53; Price per 1p (1000), $: 0.2; Comment for circuit: *; Mouser number: 863-MBRS540T3G; Digikey number: MBRS540T3GOSCT-ND; Alternative: *; Digikey link: https://www.digikey.com/en/products/detail/on-semiconductor/MBRS540T3G/918647; Mouser link: https://eu.mouser.com/ProductDetail/ON-Semiconductor/MBRS540T3G?qs=%2Fha2pyFaduhC0LQdY%2FqVaee8bZnksvp1EwMnsoQeoVc%3D; Value3: -; Part Description: Diode Schottky 40V 5A; Value1: 5A; Value: 40V
footprint DIOM795X585X240L100X300N (Diode, Molded Body; 6.85 mm L X 5.85 mm W X 2.40 mm H body)
pins: A, C

## MLP2012H2R2MT0S1
designator L?, comment 2.2µH  Value2: 1A
Inductor Shielded 2.2uH 20% 1A 0.2Ohm; Part number: MLP2012H2R2MT0S1; Manufacturer: TDK; CompType: Inductor; Value: 2.2µH; Package/Case: SMD0805; Datasheet link: https://product.tdk.com/en/search/set_distributor?back_url=/en/catalog/datasheets/inductor_commercial_power_mlp2012_en.pdf&ref_disty=digikey; Price per 1p (1), $: 0.33; Price per 1p (1000), $: 0.13; Comment for circuit: *; Mouser number: 810-MLP2012H2R2MT0S1; Digikey number: 445-15715-1-ND; Alternative: *; Digikey link: https://www.digikey.com/en/products/detail/tdk-corporation/MLP2012H2R2MT0S1/4327857; Mouser link: https://ru.mouser.com/ProductDetail/TDK/MLP2012H2R2MT0S1?qs=%2Fha2pyFadug7VbAdQihRnzhC67zwKR4tyVP5KWKdFcPlE1OjnQqmSQ%3D%3D; Value3: 0.2Ohm; Part Description: Inductor Shielded 2.2uH 20% 1A 0.2Ohm; Value1: 20%
pins: 1, 2

## MPZ1608S601ATA00
designator FB?, comment 600Ohms  Value1: 1A
Ferrite Bead 600Ohms 1A; Part number: MPZ1608S601ATA00; Manufacturer: TDK; Value2: 150mOhm; CompType: Ferrite Bead; Value: 600Ohms; Package/Case: SMD0603; Datasheet link: https://product.tdk.com/info/en/catalog/datasheets/beads_commercial_power_mpz1608_en.pdf; Price per 1p (1), $: 0.1; Price per 1p (1000), $: 0.027; Comment for circuit: *; Mouser number: 810-MPZ1608S601ATA00; Digikey number: 445-2205-1-ND; Alternative: *; Digikey link: https://www.digikey.com/product-detail/en/tdk-corporation/MPZ1608S601ATA00/445-2205-1-ND/765103; Mouser link: https://www.mouser.fi/ProductDetail/TDK/MPZ1608S601ATA00?qs=%2Fha2pyFadugcsOiFyIs3PqyLV4WV7NzmPQY%252BV8Rm%2F551LUqkOqXlQw%3D%3D; Part Description: Ferrite Bead 600Ohms 1A
footprint BEADC160X80X80L30N (Ferrite Bead, Chip; 1.60 mm L X 0.80 mm W X 0.80 mm H body)
pins: 1, 2

## NCU18XH103F60RB
designator RT?, comment 10k  Part number: NCU18XH103F60RB  Value1: 1%
Thermistor NTC 10k 1%; Manufacturer: Murata; Part Description: NTC resistor 10kOhm 1% 3380K; Value2: 3380K; Value3: 0.1mAmax; CompType: Thermistor; Value: 10k; Package/Case: SMD0603; Datasheet link: https://www.mouser.fi/datasheet/2/281/NCU18XH103F60RB-1519762.pdf; Price per 1p (1), $: 0.11; Price per 1p (1000), $: 0.04; Comment for circuit: *; Mouser number: 81-NCU18XH103F60RB; Digikey number: 490-16279-1-ND; Alternative: *; Digikey link: https://www.digikey.com/product-detail/en/murata-electronics/NCU18XH103F60RB/490-16279-1-ND/7363262; Mouser link: https://www.mouser.fi/ProductDetail/Murata-Electronics/NCU18XH103F60RB?qs=%2Fha2pyFaduhMFwrlUqelRJciy30%252BKNTUG8PNNfG%252B8ivAZ%252BP4W0I3PA%3D%3D
footprint THRMC160X80X95L40N (Thermistor, Chip; 1.60 mm L X 0.80 mm W X 0.95 mm H body)
pins: 1, 2
text: NTC

## NXE2S1215MC-R13
designator U?
DC/DC Converter 2W 3kV Isolated; Manufacturer: Murata; CompType: Integrated circuit; Package/Case: SMD Module; Alternative: *; Comment for circuit: *; Datasheet link: https://www.murata.com/products/productdata/8807031898142/kdc-nxe2.pdf?1583754813000; Digikey link: https://www.digikey.com/en/products/detail/murata-power-solutions-inc/NXE2S1215MC-R13/6009754?s=N4IgTCBcDaIHIA0CiYDKBGM6CsBZAwgLQBK6AzCALoC%2BQA; Digikey number: NXE2S1215MC-R13-ND; Mouser link: https://eu.mouser.com/ProductDetail/Murata-Power-Solutions/NXE2S1215MC-R13?qs=UqPySVGgRwHa0gMwp2thtA%3D%3D; Mouser number: 580-NXE2S1215MC-R13; Part Description: DC/DC Converter 2W 3kV Isolated; Part number: NXE2S1215MC-R13; Price per 1p (1), $: 4.5; Price per 1p (1000), $: 3.6
footprint ICCAV8P254_1270X1041X450L137X61N (Chip Array, 2 Side Concave, 2.54 mm pitch; 8 pin, 12.70 mm L X 10.41 mm W X 4.50 mm H body)
pins: 1 -Vi (power), 3 +Vi (power), 7 -Vo (power), 8 +Vo (power), 14 NC hidden

## PEC11H-4020F-S0016
designator BR?  value "text"
Encoder Mechanical 16 PPR; Manufacturer: BOURNS; CompType: Switch; Alternative: *; Comment for circuit: *; Datasheet link: https://www.bourns.com/docs/Product-Datasheets/PEC11H.pdf; Digikey link: https://www.digikey.com/en/products/detail/bourns-inc/PEC11H-4020F-S0016/12349534?s=N4IgTCBcDaIAoFEDCBGFAJAtAFgAxlwDFMBlXXFANhAF0BfIA; Digikey number: 118-PEC11H-4020F-S0016-ND; Mouser link: https://eu.mouser.com/ProductDetail/Bourns/PEC11H-4020F-S0016?qs=%2Fha2pyFadugXOIYgpT6d2kofLXwYK1YHwuBrkfy8sJ82SNO9kJXzL6bNe4VLuBIA; Mouser number: 652-PEC11H4020FS0016; Package/Case: Through Hole; Part Description: Encoder Mechanical 16 PPR; Part number: PEC11H-4020F-S0016; Price per 1p (1), $: 2.75; Price per 1p (1000), $: 1.5
footprint BOURNS_PEC11H
pins: 0 SHIELD, A, B, C, S, W

## R0603
designator R?, comment *k  Value1: *%
Resistor 0603; Manufacturer: * (Panasonic); Part Description: *Ohm *% *ppm *W; Value2: *ppm; Value3: *W; Part number: *; CompType: Resistor; Value: *k; Package/Case: SMD0603; Datasheet link: *; Price per 1p (1), $: *; Price per 1p (1000), $: *; Comment for circuit: *; Mouser number: *; Digikey number: *; Alternative: *; Digikey link: *; Mouser link: *
footprint RESC160X80X55L30N - Full legend (Resistor, Chip; 1.60 mm L X 0.80 mm W X 0.55 mm H body)
pins: 1, 2

## R0805
designator R?, comment *k  Value1: *%
Resistor 0805; Manufacturer: * (Panasonic); Part Description: *Ohm *% *ppm *W; Value2: *ppm; Value3: *W; Part number: *; CompType: Resistor; Value: *k; Package/Case: SMD0805; Datasheet link: *; Price per 1p (1), $: *; Price per 1p (1000), $: *; Comment for circuit: *; Mouser number: *; Digikey number: *; Alternative: *; Digikey link: *; Mouser link: *
footprint RESC200X125X70L40N - full legend (Resistor, Chip; 2.00 mm L X 1.25 mm W X 0.70 mm H body)
pins: 1, 2

## R1206
designator R?, comment *k  Value1: *%
Resistor 1206; Manufacturer: * (Panasonic); Part Description: *Ohm *% *ppm *W; Value2: *ppm; Value3: *W; Part number: *; CompType: Resistor; Value: *k; Package/Case: SMD1206; Datasheet link: *; Price per 1p (1), $: *; Price per 1p (1000), $: *; Comment for circuit: *; Mouser number: *; Digikey number: *; Alternative: *; Digikey link: *; Mouser link: *
footprint RESC320X160X70L50N (Resistor, Chip; 3.20 mm L X 1.60 mm W X 0.70 mm H body)
pins: 1, 2

## R2512
designator R?, comment *k  Value1: *%
Resistor 2512; Manufacturer: * (Panasonic); Part Description: *Ohm *% *ppm *W; Value2: *ppm; Value3: *W; Part number: *; CompType: Resistor; Value: *k; Package/Case: SMD2512; Datasheet link: *; Price per 1p (1), $: *; Price per 1p (1000), $: *; Comment for circuit: *; Mouser number: *; Digikey number: *; Alternative: *; Digikey link: *; Mouser link: *
footprint RESC640X320X70L60N (Resistor, Chip; 6.40 mm L X 3.20 mm W X 0.70 mm H body)
pins: 1, 2

## R2728
designator R?, comment *k  Value1: *%
Resistor 2728; Manufacturer: * (Panasonic); Part Description: *Ohm *% *ppm *W; Value2: *ppm; Value3: *W; Part number: *; CompType: Resistor; Value: *k; Package/Case: SMD2728; Datasheet link: *; Price per 1p (1), $: *; Price per 1p (1000), $: *; Comment for circuit: *; Mouser number: *; Digikey number: *; Alternative: *; Digikey link: *; Mouser link: *
footprint RESC670X720X125L115N (Resistor, Chip; 6.70 mm L X 7.20 mm W X 1.25 mm H body)
pins: 1, 2

## RL80J471MDNASQKX
designator C?, comment 470uF  Value3: 6.3V
Capacitor Polymer Radial 470µF 6.3V 8mOhm; Part number: RL80J471MDNASQKX; Manufacturer: Nichicon; Part Description: Polymer Radial 470µF 20% 6.3V 8mOhm 5000h; Value1: 5000h; Value2: 8mOhm; CompType: Capacitor; Value: 470uF; Package/Case: Radial, T/H 8.0x8.0; Datasheet link: https://www.nichicon.co.jp/english/products/pdfs/e-rl8.pdf; Price per 1p (1), $: 0.92; Price per 1p (1000), $: 0.29; Comment for circuit: *; Mouser number: 647-RL80J471MDNASQKX; Digikey number: 493-4019-1-ND; Alternative: *; Digikey link: https://www.digikey.com/product-detail/en/nichicon/RL80J471MDNASQKX/493-4019-1-ND/2347907; Mouser link: https://eu.mouser.com/ProductDetail/Nichicon/RL80J471MDNASQKX?qs=%2Fha2pyFaduhP6mXcIXwkOFOpkSVKNF%252BgtpE9jipQC1CSfb00PCsVFQ%3D%3D
footprint CAPPRD350W60D850H900 (Capacitor, Polarized, Radial (Electrolytic); 3.50 mm C X 8.50 mm Dia X 9.00 mm H body)
pins: N, P

## RL80J561MDNASQKX
designator C?, comment 560uF  Value3: 6.3V
Capacitor Polymer Radial 560µF 6.3V 8mOhm; Part number: RL80J561MDNASQKX; Manufacturer: Nichicon; Part Description: Polymer Radial 560µF 20% 6.3V 8mOhm 5000h; Value1: 5000h; Value2: 8mOhm; CompType: Capacitor; Value: 560uF; Package/Case: Radial, T/H 8.0x8.0; Datasheet link: https://www.nichicon.co.jp/english/products/pdfs/e-rl8.pdf; Price per 1p (1), $: 0.69; Price per 1p (1000), $: 0.31; Comment for circuit: *; Mouser number: 647-RL80J561MDNASQKX; Digikey number: 493-4021-1-ND; Alternative: *; Digikey link: https://www.digikey.com/product-detail/en/nichicon/RL80J561MDNASQKX/493-4021-1-ND/2347909; Mouser link: https://eu.mouser.com/ProductDetail/Nichicon/RL80J561MDNASQKX?qs=%2Fha2pyFadujdbLDwY8NDolFTXZtA0z%252Bwz8%252BY1d%2FpWRBW%2FRxFJaEGIA%3D%3D
footprint CAPPRD350W60D850H900 (Capacitor, Polarized, Radial (Electrolytic); 3.50 mm C X 8.50 mm Dia X 9.00 mm H body)
pins: N, P

## RL81C331MDN1KX
designator C?, comment 330uF  Value3: 16V
Capacitor Polymer Radial 330µF 16V 12mOhm; Part number: RL81C331MDN1KX; Manufacturer: Nichicon; Part Description: Polymer Radial 330µF 20% 16V 12mOhm 2000h; Value1: 2000h; Value2: 12mOhm; CompType: Capacitor; Value: 330uF; Package/Case: Radial, T/H 9.0x8.0; Datasheet link: https://www.nichicon.co.jp/english/products/pdfs/e-rl8.pdf; Price per 1p (1), $: 0.99; Price per 1p (1000), $: 0.34; Comment for circuit: *; Mouser number: 647-RL81C331MDN1KX; Digikey number: 493-6629-1-ND; Alternative: *; Digikey link: https://www.digikey.com/en/products/detail/nichicon/RL81C331MDN1KX/3466040; Mouser link: https://www.mouser.fi/ProductDetail/Nichicon/RL81C331MDN1KX?qs=%2Fha2pyFaduhK%2FlJqlBZNyQmMLaxQ8Su7%2FtHua9Btrb7RIgwkKaRsaw%3D%3D
footprint CAPPRD350W60D850H900 (Capacitor, Polarized, Radial (Electrolytic); 3.50 mm C X 8.50 mm Dia X 9.00 mm H body)
pins: N, P

## RL81V101MDN1KX
designator C?, comment 100uF  Value3: 35V
Capacitor Polymer Radial 100µF 35V 25mOhm; Part number: RL81V101MDN1KX; Manufacturer: Nichicon; Part Description: Polymer Radial 100µF 20% 35V 25mOhm 2000h; Value1: 2000h; Value2: 25mOhm; CompType: Capacitor; Value: 100uF; Package/Case: Radial, T/H 8.0x8.0; Datasheet link: http://nichicon-us.com/english/products/pdfs/e-rl8.pdf; Price per 1p (1), $: 2.16; Price per 1p (1000), $: 0.8; Comment for circuit: *; Mouser number: 647-RL81V101MDN1KX; Digikey number: 493-6630-1-ND; Alternative: *; Digikey link: https://www.digikey.com/product-detail/en/nichicon/RL81V101MDN1KX/493-6630-1-ND/3466042; Mouser link: https://www.mouser.fi/ProductDetail/Nichicon/RL81V101MDN1KX?qs=%2Fha2pyFadujp0wmh1eHJ4ZrOTMwlEdyH9TEHOdF6JjuEMP2hoF4V1g%3D%3D
footprint CAPPRD350W60D850H900 (Capacitor, Polarized, Radial (Electrolytic); 3.50 mm C X 8.50 mm Dia X 9.00 mm H body)
pins: N, P

## SI8620BC-B-ISR
designator U?  Package/Case: SOIC-8
Digital Isolator 3750Vrms 2 Channel 150Mbps; Manufacturer: Silicon Labs; CompType: Integrated circuit; Alternative: *; Comment for circuit: *; Datasheet link: https://www.silabs.com/documents/public/data-sheets/si861x-2x-datasheet.pdf; Digikey link: https://www.digikey.com/en/products/detail/silicon-labs/SI8620BC-B-ISR/4069784?s=N4IgTCBcDaIMoEkAcA2MAGAQgYQLSdwTgCUQBdAXyA; Digikey number: 336-4330-1-ND; Mouser link: https://eu.mouser.com/ProductDetail/Silicon-Labs/SI8620BC-B-ISR?qs=%2Fha2pyFadugs6A4vvJm%252BGaYG0423mMcOc3j31Gp1kfaMtdbhcRq0kg%3D%3D; Mouser number: 634-SI8620BC-B-ISR; Part Description: Digital Isolator 3750Vrms 2 Channel 150Mbps; Part number: SI8620BC-B-ISR; Price per 1p (1), $: 1.25; Price per 1p (1000), $: 1.15
footprint SOIC-8 (SOIC pitch=1.27mm, L*W=4.9mm*3.9mm)
pins: 1 Vdd1 (power), 2 A1 (in), 3 A2 (in), 4 Gnd1 (power), 5 Gnd2 (power), 6 B2 (out), 7 B1 (out), 8 Vdd2 (power)
text: isolation

## SMA-J-P-H-RA-TH1
designator X?
SMA Jack, Socket, Right Angle 50Ohm; Manufacturer: Samtec; CompType: Connector; Alternative: *; Comment for circuit: *; Datasheet link: http://suddendocs.samtec.com/catalog_english/sma.pdf; Digikey link: https://www.digikey.com/en/products/detail/samtec-inc/SMA-J-P-H-RA-TH1/2664715; Digikey number: SAM8856-ND; Mouser link: https://eu.mouser.com/ProductDetail/Samtec/SMA-J-P-H-RA-TH1?qs=%2Fha2pyFaduido7R%252BdeDRif5LX8zAwyx4ING7VZyWTo4ZBEJ7ms8AgA%3D%3D; Mouser number: 200-SMAJPHRATH1; Package/Case: Through Hole; Part Description: SMA Jack, Socket, Right Angle 50Ohm; Part number: SMA-J-P-H-RA-TH1; Price per 1p (1), $: 6.2; Price per 1p (1000), $: 3.6; Mating with: *
footprint Samtec_SMA-J-P-H-RA-TH1
pins: 1, 2

## SS-52400-003
designator X?
USB Type-C, Right Angle Receptacle 24 Position; Manufacturer: Stewart; Part number: SS-52400-003; CompType: Connector; Digikey link: https://www.digikey.com/en/products/detail/stewart-connector/SS-52400-003/11205655?s=N4IgTCBcDaIMpwLQFYwBYAMHFYMwgF0BfIA; Mouser link: https://www.mouser.com/ProductDetail/Stewart-Connector-Bel/SS-52400-003?qs=%2Fha2pyFaduih8cH%2F%2FY%2Fy80F9lcyWJekbo3AebMFU7YTl3sJ3rKtpvg%3D%3D; Mouser number: 530-SS-52400-003; Part Description: USB Type-C, Right Angle Receptacle 24 Position; Mating with: USB Type-C; Datasheet link: https://belfuse.com/resources/drawings/stewartconnector/dr-stw-ss-52400-003.pdf; Package/Case: SMD+TH; Comment for circuit: *; Alternative: *; Digikey number: 380-SS-52400-003CT-ND; Price per 1p (1), $: 2.25; Price per 1p (1000), $: 1.25
footprint BELFUSE_SS-52400-003
pins: A1 GND (power), A2 TX1+ (io), A3 TX1- (io), A4 VBUS, A5 CC1 (io), A6 D+ (io), A7 D- (io), A8 SBU1 (io), A9 VBUS (power), A10 RX2- (io), A11 RX2+ (io), A12 GND (power), B1 GND (power), B2 TX2+ (io), B3 TX2- (io), B4 VBUS (power), B5 VCON (io), B6 D+ (io), B7 D- (io), B8 SBU2 (io), B9 VBUS (power), B10 RX1- (io), B11 RX1+ (io), B12 GND (power), G1 GND/SHIELD (power), G2 GND/SHIELD (power), G3 GND/SHIELD (power), G4 GND/SHIELD (power), S1 GND/SHIELD (power), S2 GND/SHIELD (power), S3 GND/SHIELD (power), S4 GND/SHIELD (power)

## STM32F334R8T7
designator U?  Package/Case: LQFP-64
ARM Cortex-M4+ STM32F3 Microcontroller IC 32-Bit 72MHz 64KB; Manufacturer: STMicroelectronics; CompType: Integrated circuit; Alternative: *; Comment for circuit: *; Datasheet link: https://www.st.com/content/ccc/resource/technical/document/datasheet/d1/cd/3d/18/a2/2c/4e/d0/DM00097745.pdf/files/DM00097745.pdf/jcr:content/translations/en.DM00097745.pdf; Digikey link: https://www.digikey.com/en/products/detail/stmicroelectronics/STM32F334R8T7/5268274; Digikey number: 497-18933-ND; Mouser link: https://ru.mouser.com/ProductDetail/STMicroelectronics/STM32F334R8T7?qs=9MuLHSklicpmYDk0V9oFMQ%3D%3D; Mouser number: 511-STM32F334R8T7; Part Description: Microcontroller IC 32-Bit 72MHz 64KB; Part number: STM32F334R8T7; Price per 1p (1), $: 7.17; Price per 1p (1000), $: 4.0
footprint QFP64P50_1200X1200X160L60X22N (Quad Flat Pack (QFP), 0.50 mm pitch; square, 16 pin X 16 pin, 10.00 mm L X 10.00 mm W X 1.60 mm H body)
pins: 1 VBAT, 2 PC13 (io), 3 PC14/OSC32_IN (io), 4 PC15/OSC32_OUT (io), 5 PF0/OSC_IN (io), 6 PF1/OSC_OUT (io), 7 NRST (in), 8 PC0 (io), 9 PC1 (io), 10 PC2 (io), 11 PC3 (io), 12 VSSA (power), 13 VDDA (power), 14 PA0 (io), 15 PA1 (io), 16 PA2 (io), 17 PA3 (io), 18 VSS (power), 19 VDD, 20 PA4 (io), 21 PA5 (io), 22 PA6 (io), 23 PA7 (io), 24 PC4 (io), 25 PC5 (io), 26 PB0 (io), 27 PB1 (io), 28 PB2 (io), 29 PB10 (io), 30 PB11 (io), 31 VSS (power), 32 VDD (power), 33 PB12 (io), 34 PB13 (io), 35 PB14 (io), 36 PB15 (io), 37 PC6 (io), 38 PC7 (io), 39 PC8 (io), 40 PC9 (io), 41 PA8 (io), 42 PA9 (io), 43 PA10 (io), 44 PA11 (io), 45 PA12 (io), 46 PA13/SWDAT (io), 47 VSS (power), 48 VDD (power), 49 PA14/SWCLK (io), 50 PA15 (io), 51 PC10 (io), 52 PC11 (io), 53 PC12 (io), 54 PD2 (io), 55 PB3 (io), 56 PB4 (io), 57 PB5 (io), 58 PB6/USART1_TX (io), 59 PB7/USART1_RX (io), 60 BOOT0, 61 PB8/I2C_SCL (io), 62 PB9/I2C_SDA (io), 63 VSS (power), 64 VDD (power)

## TEST POINT
designator TP?, comment * (SWD)
Test point; Value1: 0.8mm; Value2: 1.4mm; CompType: Hole; Value: * (SWD); Package/Case: -; Comment for circuit: *; Part Description: *
footprint hole/0.8/1.4-R (hole rect 0.8/1.4)
footprint hole/0.8/1.4-O (hole rect 0.8/1.4)
pins: 1
2 alternate drawings of the same symbol

## TPD2E001DZDR
designator D?  Value2: Vcl=25V
TVS Diode Vstand=5.5V Vbr=11V; Manufacturer: Texas Instruments; Value: Vst=5.5V; Value3: 10A; CompType: TVS Diode; Package/Case: SOP-4; Datasheet link: https://www.ti.com/lit/ds/symlink/tpd2e001.pdf?HQS=dis-dk-null-digikeymode-dsf-pf-null-wwe&ts=1616116107965; Price per 1p (1), $: 0.62; Price per 1p (1000), $: 0.24; Comment for circuit: *; Mouser number: 595-TPD2E001DZDR; Digikey number: 296-24770-1-ND; Alternative: *; Digikey link: https://www.digikey.com/en/products/detail/texas-instruments/TPD2E001DZDR/1907454?s=N4IgTCBcDaICoAUAiYCiAGdBGJAtJASiALoC%2BQA; Mouser link: https://eu.mouser.com/ProductDetail/Texas-Instruments/TPD2E001DZDR?qs=%2Fha2pyFaduhRqoDPSuaK9MWyVlIH1BetI3XLYDxSpsH9UYZtlK%2FvQA%3D%3D; Part Description: TVS Diode Vstand=5.5V Vbr=11V; Part number: TPD2E001DZDR; Value1: Vbr=11V
footprint SOT143-4P192_237X122L40X40N (Small Outline Transistor (SOT143), 1.92 mm pitch; 4 pin, 2.92 mm L X 1.30 mm W X 1.22 mm H body)
pins: 1 GND, 2 IO1, 3 IO2, 4 VCC

## TPS71533DCKR
designator U?  Package/Case: SC70-5
LDO 3.3V 50mA; Manufacturer: Texas Instruments; CompType: Integrated circuit; Alternative: *; Comment for circuit: *; Datasheet link: https://www.ti.com/lit/ds/symlink/tps715.pdf?HQS=dis-dk-null-digikeymode-dsf-pf-null-wwe&ts=1615331244877; Digikey link: https://www.digikey.com/en/products/detail/texas-instruments/TPS71533DCKR/390514; Digikey number: 296-12008-1-ND; Mouser link: https://eu.mouser.com/ProductDetail/Texas-Instruments/TPS71533DCKR?qs=UGVLDq%2F29uheQ5adrJJj1w%3D%3D; Mouser number: 595-TPS71533DCKR; Part Description: LDO 3.3V 50mA; Part number: TPS71533DCKR; Price per 1p (1), $: 0.74; Price per 1p (1000), $: 0.28
footprint SOT23-5P65_210X110L36X22N (Footprint not found)
pins: 1 NC, 2 GND (power), 3 NC, 4 IN (power), 5 OUT (power)

## TPS71550DCKR
designator U?  Package/Case: SC70-5
LDO 5.0V 50mA; Manufacturer: Texas Instruments; Part Description: LDO 3.3V 50mA; CompType: Integrated circuit; Alternative: *; Comment for circuit: *; Datasheet link: https://www.ti.com/lit/ds/symlink/tps715.pdf?HQS=dis-dk-null-digikeymode-dsf-pf-null-wwe&ts=1615331244877; Digikey link: https://www.digikey.com/en/products/detail/texas-instruments/TPS71550DCKR/562815; Digikey number: 296-15046-1-ND; Mouser link: https://ru.mouser.com/ProductDetail/Texas-Instruments/TPS71550DCKR?qs=Gse6rAGbi7%252BvaZj1yCtdfw%3D%3D; Mouser number: 595-TPS71550DCKR; Part number: TPS71550DCKR; Price per 1p (1), $: 0.74; Price per 1p (1000), $: 0.28
footprint SOT23-5P65_210X110L36X22N (Footprint not found)
pins: 1 NC, 2 GND (power), 3 NC, 4 IN (power), 5 OUT (power)